# Altium footprint library SparkFun-Capacitors.PCBLIB: 30 footprints (part 1 of 2)
Each footprint in its own frame and in the unit in brackets; x right, y up, seen from the top. Pads: shape width x height; smd on the part's side, far side on the other; paste and mask are expansions set on the pad; w line width, h text height; cw(c..) or ccw(c..) is an arc to the next point about the centre after c.
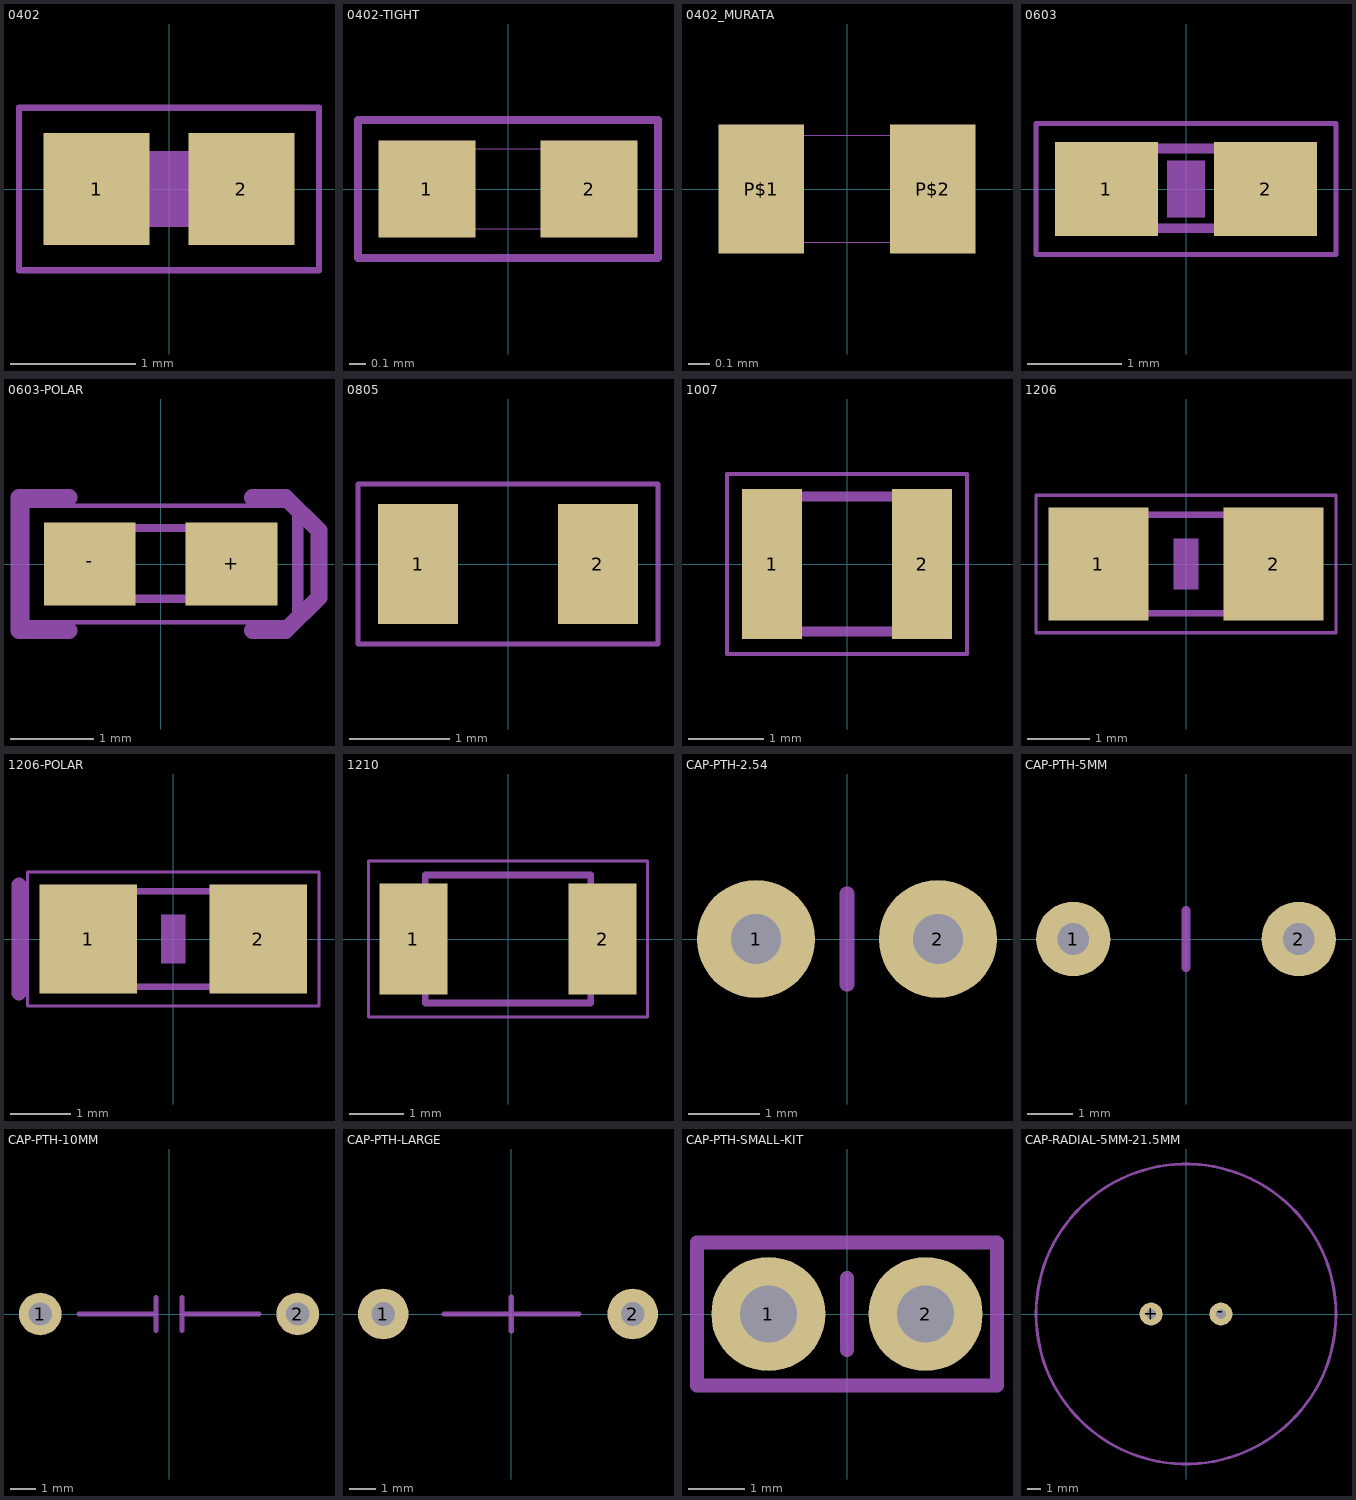
[diagram p0: the footprints below, top view; thin cyan lines are the x and y axes]

## 0402 [mil]
pads (2):
  rect 33.46x35.43 smd: 1(-22.83,0) 2(22.83,0)
Mechanical 8:
  region: -21.81,-12 -21.81,12 -10,12 -10,-12
  region: 10.19,-12 10.19,12 22,12 22,-12
  lines w6: -10.65,-9 10.65,-9 ; -10.65,9 10.65,9
Mechanical 26:
  region: -7.87,-11.81 -7.87,11.81 7.87,11.81 7.87,-11.81
Mechanical 30:
  lines w2: -47.24,-25.59 47.24,-25.59 47.24,25.59 -47.24,25.59 -47.24,-25.59

## 0402-TIGHT [mil]
pads (2):
  rect 23.62x23.62 smd: 1(-19.69,0) 2(19.69,0)
Mechanical 8:
  region: -19.69,-9.84 -19.69,9.84 -11.81,9.84 -11.81,-9.84
  region: 19.69,9.84 19.69,-9.84 11.81,-9.84 11.81,9.84
  lines w0.1: -19.69,-9.84 -19.69,9.84 19.69,9.84 19.69,-9.84 -19.69,-9.84
Mechanical 30:
  lines w1.97: -36.46,-16.78 -36.46,16.78 36.46,16.78 36.46,-16.78 -36.46,-16.78

## 0402_MURATA [mil]
pads (2):
  rect 15.75x23.62 smd mask+0: P$1(-15.75,0) P$2(15.75,0)
Top Solder:
  region: -23.62,-11.81 -23.62,11.81 -7.87,11.81 -7.87,-11.81
  region: 7.87,-11.81 7.87,11.81 23.62,11.81 23.62,-11.81
Mechanical 8:
  region: -19.69,-9.84 -19.69,9.84 -11.81,9.84 -11.81,-9.84
  region: 19.69,9.84 19.69,-9.84 11.81,-9.84 11.81,9.84
  lines w0.1: -19.69,-9.84 -19.69,9.84 19.69,9.84 19.69,-9.84 -19.69,-9.84

## 0603 [mm]
pads (2):
  rect 1.1x1 smd: 1(-0.85,0) 2(0.85,0)
Mechanical 8:
  region: -0.838,-0.47 -0.838,0.48 -0.338,0.48 -0.338,-0.47
  region: 0.33,-0.47 0.33,0.48 0.83,0.48 0.83,-0.47
  lines w0.102: -0.356,-0.419 0.356,-0.419 ; -0.356,0.432 0.356,0.432
Mechanical 26:
  region: -0.2,-0.3 -0.2,0.3 0.2,0.3 0.2,-0.3
Mechanical 30:
  lines w0.051: -1.6,-0.7 1.6,-0.7 1.6,0.7 -1.6,0.7 -1.6,-0.7

## 0603-POLAR [mm]
pads (2):
  rect 1.1x1 smd: +(0.85,0) -(-0.85,0)
Mechanical 8:
  region: -0.838,-0.47 -0.838,0.48 -0.338,0.48 -0.338,-0.47
  region: 0.33,-0.47 0.33,0.48 0.83,0.48 0.83,-0.47
  lines w0.102: -0.356,-0.419 0.356,-0.419 ; -0.356,0.432 0.356,0.432
  lines w0.203: -1.1,-0.8 -1.7,-0.8 -1.7,0.8 -1.1,0.8 ; 1.1,-0.8 1.5,-0.8 1.9,-0.4 1.9,0.4 1.5,0.8 1.1,0.8
Mechanical 22:
  lines w0.127: 1.651,-0.508 1.651,0.508
Mechanical 30:
  lines w0.051: -1.6,-0.7 1.6,-0.7 1.6,0.7 -1.6,0.7 -1.6,-0.7

## 0805 [mil]
pads (2):
  rect 31.5x47.24 smd: 1(-35.43,0) 2(35.43,0)
Mechanical 30:
  lines w2: -59.06,-31.5 59.06,-31.5 59.06,31.5 -59.06,31.5 -59.06,-31.5

## 1007 [mm]
pads (2):
  rect 0.8x2 smd: 1(-1,0) 2(1,0)
Mechanical 8:
  lines w0.127: -1.25,-0.9 -1.25,0.9 1.25,0.9 1.25,-0.9 -1.25,-0.9
Mechanical 30:
  lines w0.051: -1.6,-1.2 1.6,-1.2 1.6,1.2 -1.6,1.2 -1.6,-1.2

## 1206 [mil]
pads (2):
  rect 62.99x70.87 smd: 1(-55.12,0) 2(55.12,0)
Mechanical 8:
  region: -67,-33.5 -67,33.43 -37.47,33.43 -37.47,-33.5
  region: 37.47,-33.43 37.47,33.5 67,33.5 67,-33.43
  lines w4: -37.99,-30.98 37.99,-30.98 ; -37.99,30.98 37.99,30.98
Mechanical 26:
  region: -7.87,-15.75 -7.87,15.75 7.87,15.75 7.87,-15.75
Mechanical 30:
  lines w2: -94.49,-43.31 94.49,-43.31 94.49,43.31 -94.49,43.31 -94.49,-43.31

## 1206-POLAR [mil]
pads (2):
  rect 62.99x70.87 smd: 1(-55.12,0) 2(55.12,0)
Mechanical 8:
  region: -67,-33.5 -67,33.43 -37.47,33.43 -37.47,-33.5
  region: 37.47,-33.43 37.47,33.5 67,33.5 67,-33.43
  lines w4: -37.99,-30.98 37.99,-30.98 ; -37.99,30.98 37.99,30.98
Mechanical 22:
  lines w10: -100,-35 -100,35
Mechanical 26:
  region: -7.87,-15.75 -7.87,15.75 7.87,15.75 7.87,-15.75
Mechanical 30:
  lines w2: -94.49,-43.31 94.49,-43.31 94.49,43.31 -94.49,43.31 -94.49,-43.31

## 1210 [mil]
pads (2):
  rect 50x81.1 smd: 1(-69.09,0) 2(69.09,0)
Mechanical 8:
  lines w5: -60.49,-46.71 60.49,-46.71 60.49,46.71 -60.49,46.71 -60.49,-46.71
Mechanical 30:
  lines w2: -101.97,-57.09 101.97,-57.09 101.97,57.09 -101.97,57.09 -101.97,-57.09

## CAP-PTH-2.54 [mil]
pads (2):
  round 65 / inner round 60 / far side round 65 hole 27.56: 1(-50,0) 2(50,0)
Mechanical 22:
  lines w8: 0,-25 0,25

## CAP-PTH-5MM [mil]
pads (2):
  round 65 / inner round 60 / far side round 65 hole 27.56: 1(-98.43,0) 2(98.43,0)
Mechanical 22:
  lines w8: 0,-25 0,25

## CAP-PTH-10MM [mil]
pads (2):
  round 65 / inner round 60 / far side round 65 hole 35.43: 1(-196.85,0) 2(196.85,0)
Mechanical 22:
  lines w8: -137.8,0 -19.69,0 ; -19.69,-25 -19.69,0 ; -19.69,25 -19.69,0 ; 19.69,-25 19.69,0 ; 19.69,25 19.69,0 ; 137.8,0 19.69,0

## CAP-PTH-LARGE [mil]
pads (2):
  round 75 / inner round 60 / far side round 75 hole 35.43: 1(-190,0) 2(180,0)
Mechanical 22:
  lines w8: -100,0 0,0 ; 0,-25 0,0 ; 0,25 0,0 ; 100,0 0,0

## CAP-PTH-SMALL-KIT [mil]
pads (2):
  round 80 / inner round 60 / far side round 80 hole 40: 1(-55,0) 2(55,0)
Top Solder:
  region: 0,0 10,0 10,10 0,10
  region: 0,0 10,0 10,10 0,10
Bottom Solder:
  region: 0,0 10,0 10,10 0,10
  region: 0,0 10,0 10,10 0,10
Mechanical 22:
  lines w10: 0,-25 0,25 ; -105,-50 105,-50 105,50 -105,50 -105,-50

## CAP-RADIAL-5MM-21.5MM [mil]
pads (2):
  round 65 / inner round 60 / far side round 65 hole 27.56: +(-98.43,0) -(98.43,0)
Mechanical 22:
  circle w8: c0,0 r423.23